# Altium schematic symbol library kmilo17pet-TI_MSP430.SchLib: 1463 symbols (part 93 of 130)
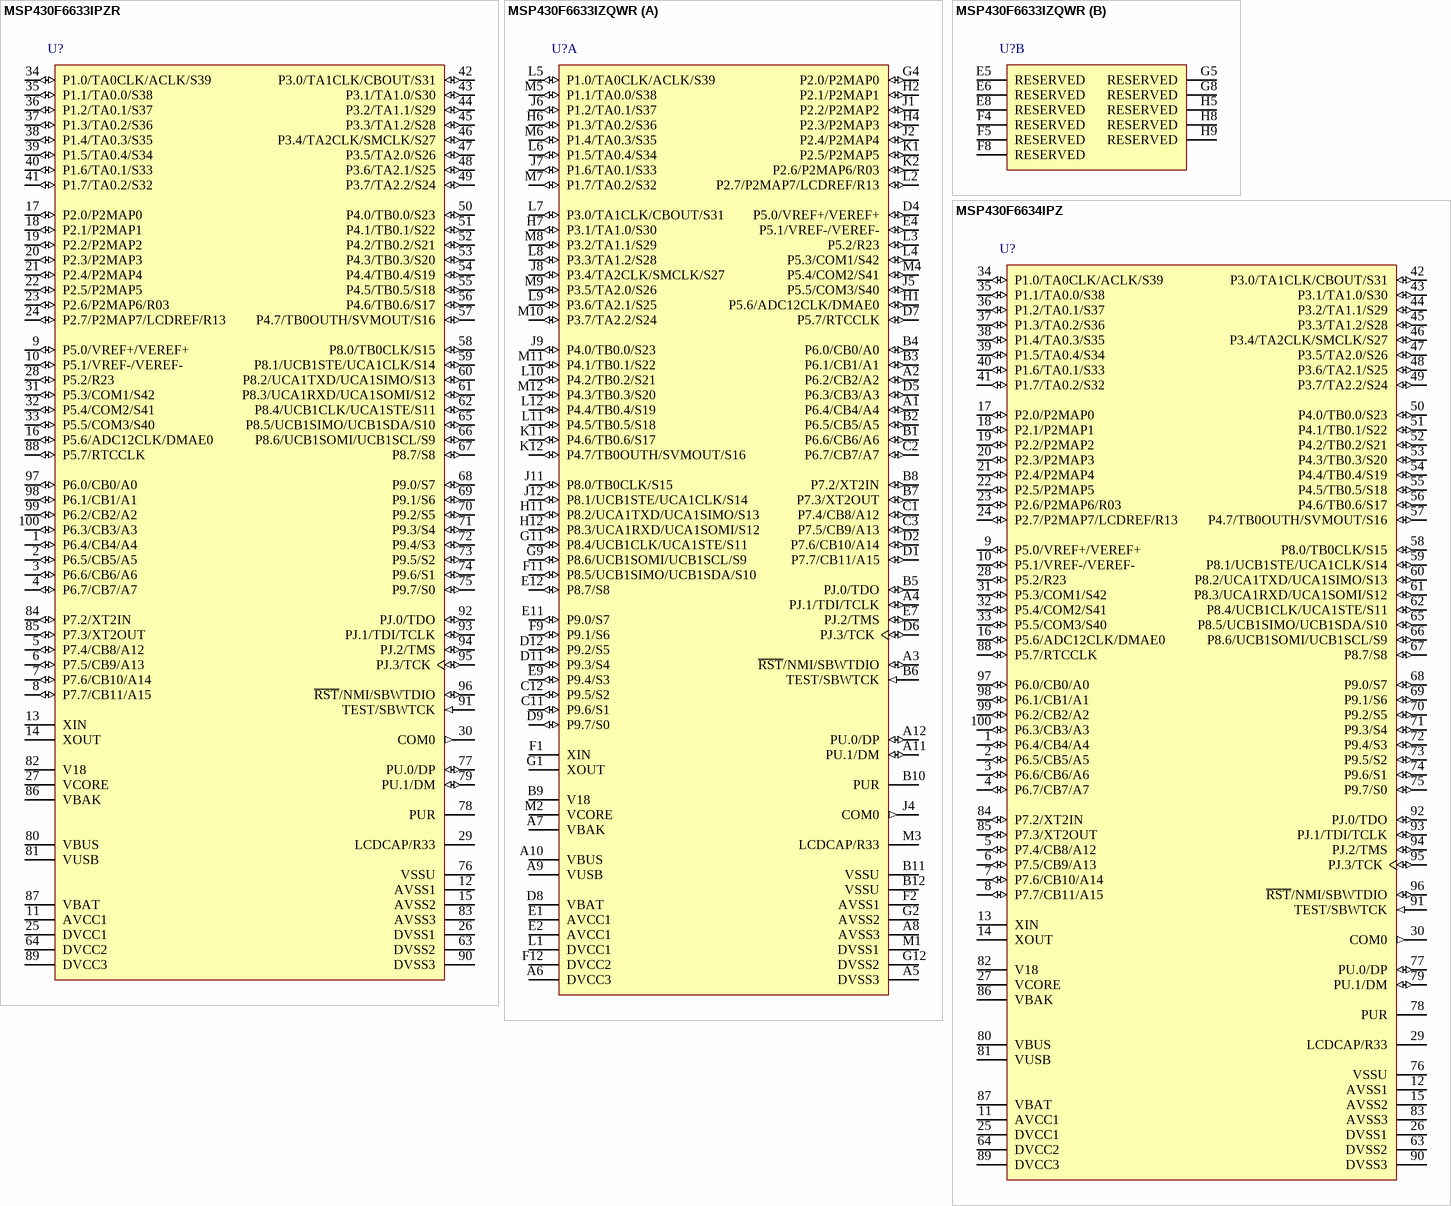
[diagram p282: symbols MSP430F6633IPZR to MSP430F6634IPZ]

## MSP430F6634IPZ
designator U?
20 MHz Mixed Signal Microcontroller with 192 KB Flash, 16384 B SRAM and 74 GPIOs, -40 to 85 degC, 100-pin QFP (PZ), Green (RoHS & no Sb/Br); Manufacturer: Texas Instruments; PartNumber: MSP430F6634IPZ; ADC: 12-bit SAR; ADC Channels: 16; Brown Out Reset: Yes; DMA: 3; Flash(KB): 192; Frequency(MHz): 20; GPIO: 74; Multiplier: 32x32; Real-Time Clock: Yes, with battery backup; SRAM(B): 16384; SubFamily: 6 Series with LCD; Timers - 16-bit: 4; USB: 1; USCI_A (UART/LIN/IrDA/SPI): 2; DatasheetVersion: SLAS566C; PackageVersion: 4040149/B; PackageReference: PZ100; PackageDescription: 100-Pin Plastic Flat Pack, Body 14 x 14 mm, Pitch 0.5 mm; Supplier 1: Digi-Key; Supplier Part Number 1: MSP430F6633IZQWR-ND; Supplier 2: Mouser; Supplier Part Number 2: 595-MSP430F6633IZQWR; Comparators: Yes; Eco-Plan: Green (RoHS & no Sb/Br); SVS: Yes; Temp Sensor: Yes; USCI_B (I2C & SPI): 2; Watchdog: Yes; Mounting Technology: Surface Mount; Code_JEDEC: MS-026; ComponentLink1Description: Manufacturer URL; ComponentLink1URL: http://www.ti.com/; ComponentLink2Description: Datasheet; ComponentLink2URL: http://www.ti.com/general/docs/lit/getliterature.tsp?genericPartNumber=MSP430F6634&fileType=pdf; ComponentLink3Description: Package Specification; ComponentLink3URL: http://www.ti.com/lit/ml/mtqf013a/mtqf013a.pdf
footprint TI-PZ100_N (QFP, 100-Leads, Body 14x14mm, Pitch 0.5mm, IPC Medium Density)
pins: 1 P6.4/CB4/A4 (io), 2 P6.5/CB5/A5 (io), 3 P6.6/CB6/A6 (io), 4 P6.7/CB7/A7 (io), 5 P7.4/CB8/A12 (io), 6 P7.5/CB9/A13 (io), 7 P7.6/CB10/A14 (io), 8 P7.7/CB11/A15 (io), 9 P5.0/VREF+/VEREF+ (io), 10 P5.1/VREF-/VEREF- (io), 11 AVCC1 (power) "Analog power supply", 12 AVSS1 (power) "Analog ground supply", 13 XIN "Input terminal for crystal oscillator XT1", 14 XOUT "Output terminal of crystal oscillator XT1", 15 AVSS2 (power) "Analog ground supply", 16 P5.6/ADC12CLK/DMAE0 (io), 17 P2.0/P2MAP0 (io), 18 P2.1/P2MAP1 (io), 19 P2.2/P2MAP2 (io), 20 P2.3/P2MAP3 (io), 21 P2.4/P2MAP4 (io), 22 P2.5/P2MAP5 (io), 23 P2.6/P2MAP6/R03 (io), 24 P2.7/P2MAP7/LCDREF/R13 (io), 25 DVCC1 (power) "Digital power supply", 26 DVSS1 (power) "Digital ground supply", 27 VCORE "Regulated core power supply (internal use only, no external current loading)", 28 P5.2/R23 (io), 29 LCDCAP/R33, 30 COM0 (out) "LCD common output COM0 for LCD backplane", 31 P5.3/COM1/S42 (io), 32 P5.4/COM2/S41 (io), 33 P5.5/COM3/S40 (io), 34 P1.0/TA0CLK/ACLK/S39 (io), 35 P1.1/TA0.0/S38 (io), 36 P1.2/TA0.1/S37 (io), 37 P1.3/TA0.2/S36 (io), 38 P1.4/TA0.3/S35 (io), 39 P1.5/TA0.4/S34 (io), 40 P1.6/TA0.1/S33 (io), 41 P1.7/TA0.2/S32 (io), 42 P3.0/TA1CLK/CBOUT/S31 (io), 43 P3.1/TA1.0/S30 (io), 44 P3.2/TA1.1/S29 (io), 45 P3.3/TA1.2/S28 (io), 46 P3.4/TA2CLK/SMCLK/S27 (io), 47 P3.5/TA2.0/S26 (io), 48 P3.6/TA2.1/S25 (io), 49 P3.7/TA2.2/S24 (io), 50 P4.0/TB0.0/S23 (io), 51 P4.1/TB0.1/S22 (io), 52 P4.2/TB0.2/S21 (io), 53 P4.3/TB0.3/S20 (io), 54 P4.4/TB0.4/S19 (io), 55 P4.5/TB0.5/S18 (io), 56 P4.6/TB0.6/S17 (io), 57 P4.7/TB0OUTH/SVMOUT/S16 (io), 58 P8.0/TB0CLK/S15 (io), 59 P8.1/UCB1STE/UCA1CLK/S14 (io), 60 P8.2/UCA1TXD/UCA1SIMO/S13 (io), 61 P8.3/UCA1RXD/UCA1SOMI/S12 (io), 62 P8.4/UCB1CLK/UCA1STE/S11 (io), 63 DVSS2 (power) "Digital ground supply", 64 DVCC2 (power) "Digital power supply", 65 P8.5/UCB1SIMO/UCB1SDA/S10 (io), 66 P8.6/UCB1SOMI/UCB1SCL/S9 (io), 67 P8.7/S8 (io), 68 P9.0/S7 (io), 69 P9.1/S6 (io), 70 P9.2/S5 (io), 71 P9.3/S4 (io), 72 P9.4/S3 (io), 73 P9.5/S2 (io), 74 P9.6/S1 (io), 75 P9.7/S0 (io), 76 VSSU (power) "USB PHY ground supply", 77 PU.0/DP (io), 78 PUR "USB pullup resistor pin (open drain). The voltage level at the PUR pin is used to PUR pin is used to invoke the default USB BSL. Recommended 1-Mohm resistor to ground.", 79 PU.1/DM (io), 80 VBUS (power) "USB LDO input (connect to USB power source)", 81 VUSB (power) "USB LDO output", 82 V18 "USB regulated power (internal use only, no external current loading)", 83 AVSS3 (power) "Analog ground supply", 84 P7.2/XT2IN (io), 85 P7.3/XT2OUT (io), 86 VBAK "Capacitor for backup subsystem. Do not load this pin externally. For capacitor values, see CBAK in Recommended Operating Conditions.", 87 VBAT (power) "Backup or secondary supply voltage. If backup voltage is not supplied, connect to DVCC externally.", 88 P5.7/RTCCLK (io), 89 DVCC3 (power) "Digital power supply", 90 DVSS3 (power) "Digital ground supply", 91 TEST/SBWTCK (in), 92 PJ.0/TDO (io), 93 PJ.1/TDI/TCLK (io), 94 PJ.2/TMS (io), 95 PJ.3/TCK (io), 96 ~{RST}/NMI/SBWTDIO (io), 97 P6.0/CB0/A0 (io), 98 P6.1/CB1/A1 (io), 99 P6.2/CB2/A2 (io), 100 P6.3/CB3/A3 (io)

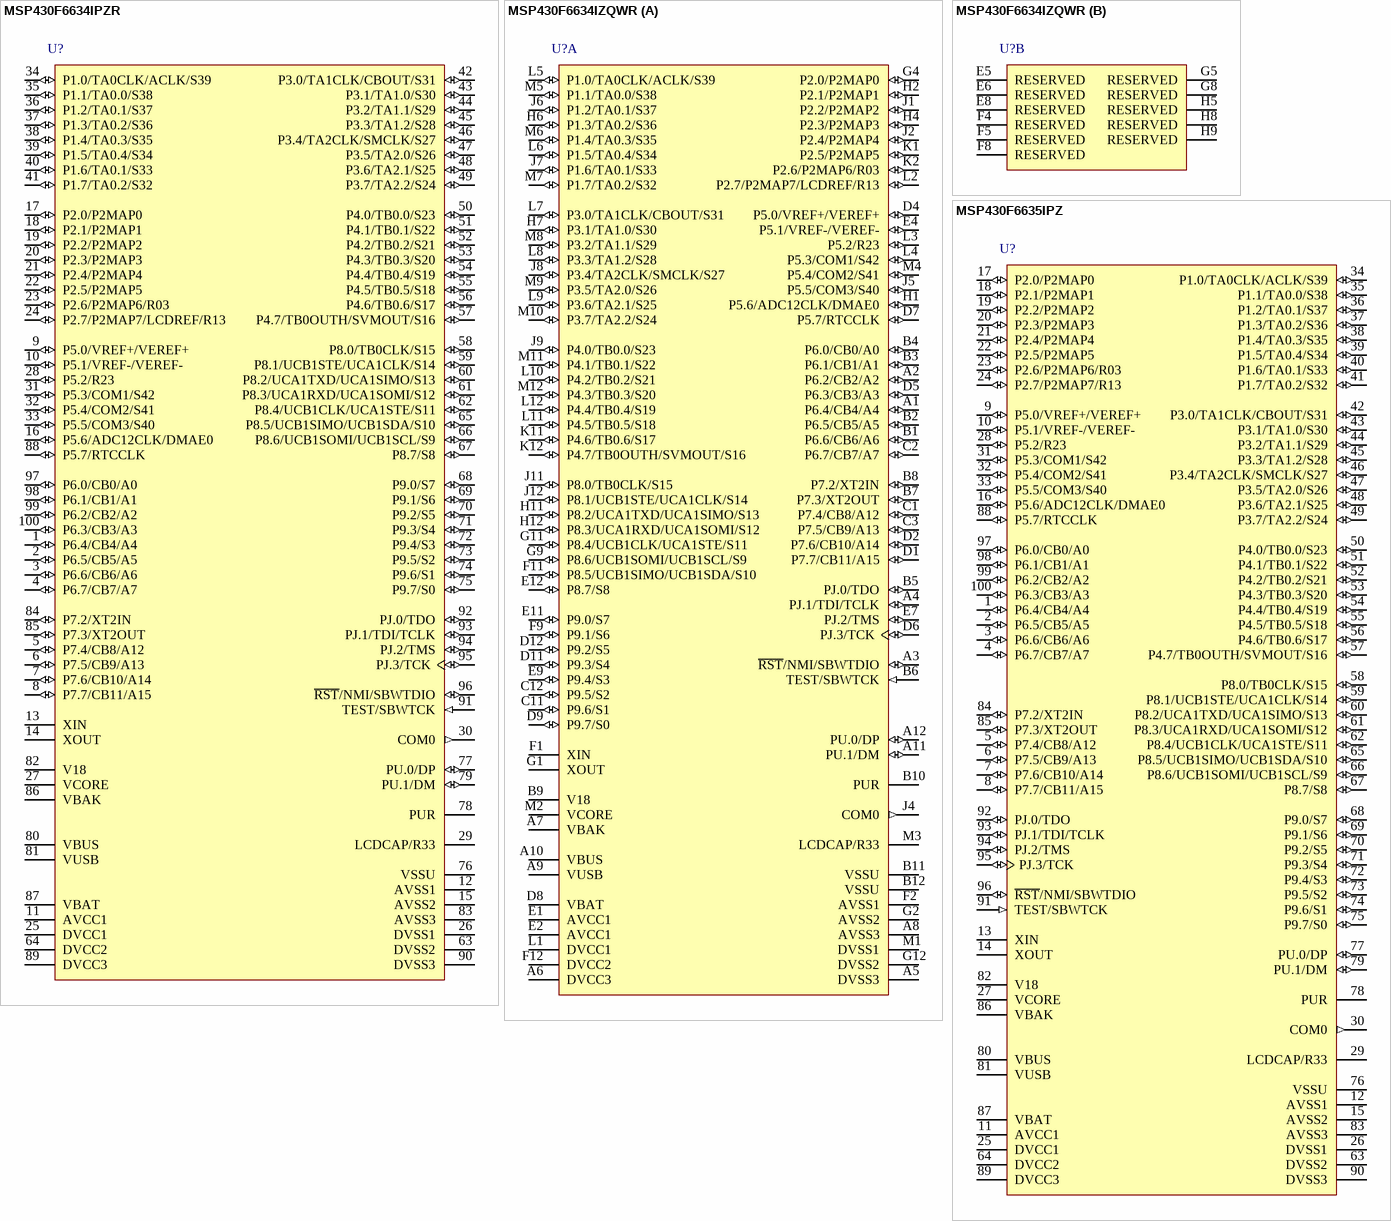
[diagram p150: symbols MSP430F6634IPZR to MSP430F6635IPZ]

## MSP430F6634IPZR
designator U?
20 MHz Mixed Signal Microcontroller with 192 KB Flash, 16384 B SRAM and 74 GPIOs, -40 to 85 degC, 100-pin QFP (PZ), Green (RoHS & no Sb/Br); Manufacturer: Texas Instruments; PartNumber: MSP430F6634IPZR; ADC: 12-bit SAR; ADC Channels: 16; Brown Out Reset: Yes; DMA: 3; Flash(KB): 192; Frequency(MHz): 20; GPIO: 74; Multiplier: 32x32; Real-Time Clock: Yes, with battery backup; SRAM(B): 16384; SubFamily: 6 Series with LCD; Timers - 16-bit: 4; USB: 1; USCI_A (UART/LIN/IrDA/SPI): 2; DatasheetVersion: SLAS566C; PackageVersion: 4040149/B; PackageReference: PZ100; PackageDescription: 100-Pin Plastic Flat Pack, Body 14 x 14 mm, Pitch 0.5 mm; Supplier 1: Digi-Key; Supplier Part Number 1: MSP430F6634IPZ-ND; Supplier 2: Newark; Supplier Part Number 2: 21T2325; Supplier 3: Mouser; Supplier Part Number 3: 595-MSP430F6634IPZ; Comparators: Yes; Eco-Plan: Green (RoHS & no Sb/Br); SVS: Yes; Temp Sensor: Yes; USCI_B (I2C & SPI): 2; Watchdog: Yes; Mounting Technology: Surface Mount; Code_JEDEC: MS-026; ComponentLink1Description: Manufacturer URL; ComponentLink1URL: http://www.ti.com/; ComponentLink2Description: Datasheet; ComponentLink2URL: http://www.ti.com/general/docs/lit/getliterature.tsp?genericPartNumber=MSP430F6634&fileType=pdf; ComponentLink3Description: Package Specification; ComponentLink3URL: http://www.ti.com/lit/ml/mtqf013a/mtqf013a.pdf
footprint TI-PZ100_N (QFP, 100-Leads, Body 14x14mm, Pitch 0.5mm, IPC Medium Density)
pins: 1 P6.4/CB4/A4 (io), 2 P6.5/CB5/A5 (io), 3 P6.6/CB6/A6 (io), 4 P6.7/CB7/A7 (io), 5 P7.4/CB8/A12 (io), 6 P7.5/CB9/A13 (io), 7 P7.6/CB10/A14 (io), 8 P7.7/CB11/A15 (io), 9 P5.0/VREF+/VEREF+ (io), 10 P5.1/VREF-/VEREF- (io), 11 AVCC1 (power) "Analog power supply", 12 AVSS1 (power) "Analog ground supply", 13 XIN "Input terminal for crystal oscillator XT1", 14 XOUT "Output terminal of crystal oscillator XT1", 15 AVSS2 (power) "Analog ground supply", 16 P5.6/ADC12CLK/DMAE0 (io), 17 P2.0/P2MAP0 (io), 18 P2.1/P2MAP1 (io), 19 P2.2/P2MAP2 (io), 20 P2.3/P2MAP3 (io), 21 P2.4/P2MAP4 (io), 22 P2.5/P2MAP5 (io), 23 P2.6/P2MAP6/R03 (io), 24 P2.7/P2MAP7/LCDREF/R13 (io), 25 DVCC1 (power) "Digital power supply", 26 DVSS1 (power) "Digital ground supply", 27 VCORE "Regulated core power supply (internal use only, no external current loading)", 28 P5.2/R23 (io), 29 LCDCAP/R33, 30 COM0 (out) "LCD common output COM0 for LCD backplane", 31 P5.3/COM1/S42 (io), 32 P5.4/COM2/S41 (io), 33 P5.5/COM3/S40 (io), 34 P1.0/TA0CLK/ACLK/S39 (io), 35 P1.1/TA0.0/S38 (io), 36 P1.2/TA0.1/S37 (io), 37 P1.3/TA0.2/S36 (io), 38 P1.4/TA0.3/S35 (io), 39 P1.5/TA0.4/S34 (io), 40 P1.6/TA0.1/S33 (io), 41 P1.7/TA0.2/S32 (io), 42 P3.0/TA1CLK/CBOUT/S31 (io), 43 P3.1/TA1.0/S30 (io), 44 P3.2/TA1.1/S29 (io), 45 P3.3/TA1.2/S28 (io), 46 P3.4/TA2CLK/SMCLK/S27 (io), 47 P3.5/TA2.0/S26 (io), 48 P3.6/TA2.1/S25 (io), 49 P3.7/TA2.2/S24 (io), 50 P4.0/TB0.0/S23 (io), 51 P4.1/TB0.1/S22 (io), 52 P4.2/TB0.2/S21 (io), 53 P4.3/TB0.3/S20 (io), 54 P4.4/TB0.4/S19 (io), 55 P4.5/TB0.5/S18 (io), 56 P4.6/TB0.6/S17 (io), 57 P4.7/TB0OUTH/SVMOUT/S16 (io), 58 P8.0/TB0CLK/S15 (io), 59 P8.1/UCB1STE/UCA1CLK/S14 (io), 60 P8.2/UCA1TXD/UCA1SIMO/S13 (io), 61 P8.3/UCA1RXD/UCA1SOMI/S12 (io), 62 P8.4/UCB1CLK/UCA1STE/S11 (io), 63 DVSS2 (power) "Digital ground supply", 64 DVCC2 (power) "Digital power supply", 65 P8.5/UCB1SIMO/UCB1SDA/S10 (io), 66 P8.6/UCB1SOMI/UCB1SCL/S9 (io), 67 P8.7/S8 (io), 68 P9.0/S7 (io), 69 P9.1/S6 (io), 70 P9.2/S5 (io), 71 P9.3/S4 (io), 72 P9.4/S3 (io), 73 P9.5/S2 (io), 74 P9.6/S1 (io), 75 P9.7/S0 (io), 76 VSSU (power) "USB PHY ground supply", 77 PU.0/DP (io), 78 PUR "USB pullup resistor pin (open drain). The voltage level at the PUR pin is used to PUR pin is used to invoke the default USB BSL. Recommended 1-Mohm resistor to ground.", 79 PU.1/DM (io), 80 VBUS (power) "USB LDO input (connect to USB power source)", 81 VUSB (power) "USB LDO output", 82 V18 "USB regulated power (internal use only, no external current loading)", 83 AVSS3 (power) "Analog ground supply", 84 P7.2/XT2IN (io), 85 P7.3/XT2OUT (io), 86 VBAK "Capacitor for backup subsystem. Do not load this pin externally. For capacitor values, see CBAK in Recommended Operating Conditions.", 87 VBAT (power) "Backup or secondary supply voltage. If backup voltage is not supplied, connect to DVCC externally.", 88 P5.7/RTCCLK (io), 89 DVCC3 (power) "Digital power supply", 90 DVSS3 (power) "Digital ground supply", 91 TEST/SBWTCK (in), 92 PJ.0/TDO (io), 93 PJ.1/TDI/TCLK (io), 94 PJ.2/TMS (io), 95 PJ.3/TCK (io), 96 ~{RST}/NMI/SBWTDIO (io), 97 P6.0/CB0/A0 (io), 98 P6.1/CB1/A1 (io), 99 P6.2/CB2/A2 (io), 100 P6.3/CB3/A3 (io)

## MSP430F6634IZQWR
designator U?
20 MHz Mixed Signal Microcontroller with 192 KB Flash, 16384 B SRAM and 74 GPIOs, -40 to 85 degC, 113-pin BGA (ZQW), Green (RoHS & no Sb/Br); Manufacturer: Texas Instruments; PartNumber: MSP430F6634IZQWR; ADC: 12-bit SAR; ADC Channels: 16; Brown Out Reset: Yes; DMA: 3; Flash(KB): 192; Frequency(MHz): 20; GPIO: 74; Multiplier: 32x32; Real-Time Clock: Yes, with battery backup; SRAM(B): 16384; SubFamily: 6 Series with LCD; Timers - 16-bit: 4; USB: 1; USCI_A (UART/LIN/IrDA/SPI): 2; DatasheetVersion: SLAS566C; PackageVersion: 4204599-3/D; PackageReference: ZQW113; PackageDescription: 113-Pin Plastic Ball Grid Array Package, Body 7 x 7 mm, Pitch 0.5 mm; Supplier 1: Digi-Key; Supplier Part Number 1: MSP430F6634IPZR-ND; Supplier 2: Mouser; Supplier Part Number 2: 595-MSP430F6634IPZR; Comparators: Yes; Eco-Plan: Green (RoHS & no Sb/Br); SVS: Yes; Temp Sensor: Yes; USCI_B (I2C & SPI): 2; Watchdog: Yes; Mounting Technology: Surface Mount; Code_JEDEC: MO-225; ComponentLink1Description: Manufacturer URL; ComponentLink1URL: http://www.ti.com/; ComponentLink2Description: Datasheet; ComponentLink2URL: http://www.ti.com/general/docs/lit/getliterature.tsp?genericPartNumber=MSP430F6634&fileType=pdf; ComponentLink3Description: Package Specification; ComponentLink3URL: http://www.ti.com/lit/ml/mpbg674/mpbg674.pdf
footprint TI-ZQW113 (BGA, 113-Balls, Body 7x7mm, Pitch 0.5mm)
part A pins: A1 P6.4/CB4/A4 (io), A2 P6.2/CB2/A2 (io), A3 ~{RST}/NMI/SBWTDIO (io), A4 PJ.1/TDI/TCLK (io), A5 DVSS3 (power) "Digital ground supply", A6 DVCC3 (power) "Digital power supply", A7 VBAK "Capacitor for backup subsystem. Do not load this pin externally. For capacitor values, see CBAK in Recommended Operating Conditions.", A8 AVSS3 (power) "Analog ground supply", A9 VUSB (power) "USB LDO output", A10 VBUS (power) "USB LDO input (connect to USB power source)", A11 PU.1/DM (io), A12 PU.0/DP (io), B1 P6.6/CB6/A6 (io), B2 P6.5/CB5/A5 (io), B3 P6.1/CB1/A1 (io), B4 P6.0/CB0/A0 (io), B5 PJ.0/TDO (io), B6 TEST/SBWTCK (in), B7 P7.3/XT2OUT (io), B8 P7.2/XT2IN (io), B9 V18 "USB regulated power (internal use only, no external current loading)", B10 PUR "USB pullup resistor pin (open drain). The voltage level at the PUR pin is used to the default USB BSL. Recommended 1-Mohm resistor to ground.", B11 VSSU (power) "USB PHY ground supply", B12 VSSU (power) "USB PHY ground supply", C1 P7.4/CB8/A12 (io), C2 P6.7/CB7/A7 (io), C3 P7.5/CB9/A13 (io), C11 P9.6/S1 (io), C12 P9.5/S2 (io), D1 P7.7/CB11/A15 (io), D2 P7.6/CB10/A14 (io), D4 P5.0/VREF+/VEREF+ (io), D5 P6.3/CB3/A3 (io), D6 PJ.3/TCK (io), D7 P5.7/RTCCLK (io), D8 VBAT (power) "Backup or secondary supply voltage. If backup voltage is not supplied, connect to DVCC externally.", D9 P9.7/S0 (io), D11 P9.3/S4 (io), D12 P9.2/S5 (io), E1 AVCC1 (power) "Analog power supply", E2 AVCC1 (power) "Analog power supply", E4 P5.1/VREF-/VEREF- (io), E7 PJ.2/TMS (io), E9 P9.4/S3 (io), E11 P9.0/S7 (io), E12 P8.7/S8 (io), F1 XIN "Input terminal for crystal oscillator XT1", F2 AVSS1 (power) "Analog ground supply", F9 P9.1/S6 (io), F11 P8.5/UCB1SIMO/UCB1SDA/S10 (io), F12 DVCC2 (power) "Digital power supply", G1 XOUT "Output terminal of crystal oscillator XT1", G2 AVSS2 (power) "Analog ground supply", G4 P2.0/P2MAP0 (io), G9 P8.6/UCB1SOMI/UCB1SCL/S9 (io), G11 P8.4/UCB1CLK/UCA1STE/S11 (io), G12 DVSS2 (power) "Digital ground supply", H1 P5.6/ADC12CLK/DMAE0 (io), H2 P2.1/P2MAP1 (io), H4 P2.3/P2MAP3 (io), H6 P1.3/TA0.2/S36 (io), H7 P3.1/TA1.0/S30 (io), H11 P8.2/UCA1TXD/UCA1SIMO/S13 (io), H12 P8.3/UCA1RXD/UCA1SOMI/S12 (io), J1 P2.2/P2MAP2 (io), J2 P2.4/P2MAP4 (io), J4 COM0 (out) "LCD common output COM0 for LCD backplane", J5 P5.5/COM3/S40 (io), J6 P1.2/TA0.1/S37 (io), J7 P1.6/TA0.1/S33 (io), J8 P3.4/TA2CLK/SMCLK/S27 (io), J9 P4.0/TB0.0/S23 (io), J11 P8.0/TB0CLK/S15 (io), J12 P8.1/UCB1STE/UCA1CLK/S14 (io), K1 P2.5/P2MAP5 (io), K2 P2.6/P2MAP6/R03 (io), K11 P4.6/TB0.6/S17 (io), K12 P4.7/TB0OUTH/SVMOUT/S16 (io), L1 DVCC1 (power) "Digital power supply", L2 P2.7/P2MAP7/LCDREF/R13 (io), L3 P5.2/R23 (io), L4 P5.3/COM1/S42 (io), L5 P1.0/TA0CLK/ACLK/S39 (io), L6 P1.5/TA0.4/S34 (io), L7 P3.0/TA1CLK/CBOUT/S31 (io), L8 P3.3/TA1.2/S28 (io), L9 P3.6/TA2.1/S25 (io), L10 P4.2/TB0.2/S21 (io), L11 P4.5/TB0.5/S18 (io), L12 P4.4/TB0.4/S19 (io), M1 DVSS1 (power) "Digital ground supply", M2 VCORE "Regulated core power supply (internal use only, no external current loading)", M3 LCDCAP/R33, M4 P5.4/COM2/S41 (io), M5 P1.1/TA0.0/S38 (io), M6 P1.4/TA0.3/S35 (io), M7 P1.7/TA0.2/S32 (io), M8 P3.2/TA1.1/S29 (io), M9 P3.5/TA2.0/S26 (io), M10 P3.7/TA2.2/S24 (io), M11 P4.1/TB0.1/S22 (io), M12 P4.3/TB0.3/S20 (io)
part B pins: E5 RESERVED "Reserved. It is recommended to connect to ground (DVSS, AVSS).", E6 RESERVED "Reserved. It is recommended to connect to ground (DVSS, AVSS).", E8 RESERVED "Reserved. It is recommended to connect to ground (DVSS, AVSS).", F4 RESERVED "Reserved. It is recommended to connect to ground (DVSS, AVSS).", F5 RESERVED "Reserved. It is recommended to connect to ground (DVSS, AVSS).", F8 RESERVED "Reserved. It is recommended to connect to ground (DVSS, AVSS).", G5 RESERVED "Reserved. It is recommended to connect to ground (DVSS, AVSS).", G8 RESERVED "Reserved. It is recommended to connect to ground (DVSS, AVSS).", H5 RESERVED "Reserved. It is recommended to connect to ground (DVSS, AVSS).", H8 RESERVED "Reserved. It is recommended to connect to ground (DVSS, AVSS).", H9 RESERVED "Reserved. It is recommended to connect to ground (DVSS, AVSS)."

## MSP430F6635IPZ
designator U?
20 MHz Mixed Signal Microcontroller with 256 KB Flash, 16384 B SRAM and 74 GPIOs, -40 to 85 degC, 100-pin QFP (PZ), Green (RoHS & no Sb/Br); Manufacturer: Texas Instruments; PartNumber: MSP430F6635IPZ; ADC: 12-bit SAR; ADC Channels: 16; Brown Out Reset: Yes; DMA: 3; Flash(KB): 256; Frequency(MHz): 20; GPIO: 74; Multiplier: 32x32; Real-Time Clock: Yes, with battery backup; SRAM(B): 16384; SubFamily: 6 Series with LCD; Timers - 16-bit: 4; USB: 1; USCI_A (UART/LIN/IrDA/SPI): 2; DatasheetVersion: SLAS566C; PackageVersion: 4040149/B; PackageReference: PZ100; PackageDescription: 100-Pin Plastic Flat Pack, Body 14 x 14 mm, Pitch 0.5 mm; Supplier 1: Digi-Key; Supplier Part Number 1: MSP430F6634IZQWR-ND; Supplier 2: Mouser; Supplier Part Number 2: 595-MSP430F6634IZQWR; Comparators: Yes; Eco-Plan: Green (RoHS & no Sb/Br); SVS: Yes; Temp Sensor: Yes; USCI_B (I2C & SPI): 2; Watchdog: Yes; Mounting Technology: Surface Mount; Code_JEDEC: MS-026; ComponentLink1Description: Manufacturer URL; ComponentLink1URL: http://www.ti.com/; ComponentLink2Description: Datasheet; ComponentLink2URL: http://www.ti.com/general/docs/lit/getliterature.tsp?genericPartNumber=MSP430F6635&fileType=pdf; ComponentLink3Description: Package Specification; ComponentLink3URL: http://www.ti.com/lit/ml/mtqf013a/mtqf013a.pdf
footprint TI-PZ100_N (QFP, 100-Leads, Body 14x14mm, Pitch 0.5mm, IPC Medium Density)
pins: 1 P6.4/CB4/A4 (io), 2 P6.5/CB5/A5 (io), 3 P6.6/CB6/A6 (io), 4 P6.7/CB7/A7 (io), 5 P7.4/CB8/A12 (io), 6 P7.5/CB9/A13 (io), 7 P7.6/CB10/A14 (io), 8 P7.7/CB11/A15 (io), 9 P5.0/VREF+/VEREF+ (io), 10 P5.1/VREF-/VEREF- (io), 11 AVCC1 (power) "Analog power supply", 12 AVSS1 (power) "Analog ground supply", 13 XIN "Input terminal for crystal oscillator XT1", 14 XOUT "Output terminal of crystal oscillator XT1", 15 AVSS2 (power) "Analog ground supply", 16 P5.6/ADC12CLK/DMAE0 (io), 17 P2.0/P2MAP0 (io), 18 P2.1/P2MAP1 (io), 19 P2.2/P2MAP2 (io), 20 P2.3/P2MAP3 (io), 21 P2.4/P2MAP4 (io), 22 P2.5/P2MAP5 (io), 23 P2.6/P2MAP6/R03 (io), 24 P2.7/P2MAP7/R13 (io), 25 DVCC1 (power) "Digital power supply", 26 DVSS1 (power) "Digital ground supply", 27 VCORE "Regulated core power supply (internal use only, no external current loading)", 28 P5.2/R23 (io), 29 LCDCAP/R33, 30 COM0 (out) "LCD common output COM0 for LCD backplane", 31 P5.3/COM1/S42 (io), 32 P5.4/COM2/S41 (io), 33 P5.5/COM3/S40 (io), 34 P1.0/TA0CLK/ACLK/S39 (io), 35 P1.1/TA0.0/S38 (io), 36 P1.2/TA0.1/S37 (io), 37 P1.3/TA0.2/S36 (io), 38 P1.4/TA0.3/S35 (io), 39 P1.5/TA0.4/S34 (io), 40 P1.6/TA0.1/S33 (io), 41 P1.7/TA0.2/S32 (io), 42 P3.0/TA1CLK/CBOUT/S31 (io), 43 P3.1/TA1.0/S30 (io), 44 P3.2/TA1.1/S29 (io), 45 P3.3/TA1.2/S28 (io), 46 P3.4/TA2CLK/SMCLK/S27 (io), 47 P3.5/TA2.0/S26 (io), 48 P3.6/TA2.1/S25 (io), 49 P3.7/TA2.2/S24 (io), 50 P4.0/TB0.0/S23 (io), 51 P4.1/TB0.1/S22 (io), 52 P4.2/TB0.2/S21 (io), 53 P4.3/TB0.3/S20 (io), 54 P4.4/TB0.4/S19 (io), 55 P4.5/TB0.5/S18 (io), 56 P4.6/TB0.6/S17 (io), 57 P4.7/TB0OUTH/SVMOUT/S16 (io), 58 P8.0/TB0CLK/S15 (io), 59 P8.1/UCB1STE/UCA1CLK/S14 (io), 60 P8.2/UCA1TXD/UCA1SIMO/S13 (io), 61 P8.3/UCA1RXD/UCA1SOMI/S12 (io), 62 P8.4/UCB1CLK/UCA1STE/S11 (io), 63 DVSS2 (power) "Digital ground supply", 64 DVCC2 (power) "Digital power supply", 65 P8.5/UCB1SIMO/UCB1SDA/S10 (io), 66 P8.6/UCB1SOMI/UCB1SCL/S9 (io), 67 P8.7/S8 (io), 68 P9.0/S7 (io), 69 P9.1/S6 (io), 70 P9.2/S5 (io), 71 P9.3/S4 (io), 72 P9.4/S3 (io), 73 P9.5/S2 (io), 74 P9.6/S1 (io), 75 P9.7/S0 (io), 76 VSSU (power) "USB PHY ground supply", 77 PU.0/DP (io), 78 PUR "USB pullup resistor pin (open drain). The voltage level at the PUR pin is used to PUR pin is used to invoke the default USB BSL. Recommended 1-Mohm resistor to ground.", 79 PU.1/DM (io), 80 VBUS (power) "USB LDO input (connect to USB power source)", 81 VUSB (power) "USB LDO output", 82 V18 "USB regulated power (internal use only, no external current loading)", 83 AVSS3 (power) "Analog ground supply", 84 P7.2/XT2IN (io), 85 P7.3/XT2OUT (io), 86 VBAK "Capacitor for backup subsystem. Do not load this pin externally. For capacitor values, see CBAK in Recommended Operating Conditions.", 87 VBAT (power) "Backup or secondary supply voltage. If backup voltage is not supplied, connect to DVCC externally.", 88 P5.7/RTCCLK (io), 89 DVCC3 (power) "Digital power supply", 90 DVSS3 (power) "Digital ground supply", 91 TEST/SBWTCK (in), 92 PJ.0/TDO (io), 93 PJ.1/TDI/TCLK (io), 94 PJ.2/TMS (io), 95 PJ.3/TCK (io), 96 ~{RST}/NMI/SBWTDIO (io), 97 P6.0/CB0/A0 (io), 98 P6.1/CB1/A1 (io), 99 P6.2/CB2/A2 (io), 100 P6.3/CB3/A3 (io)

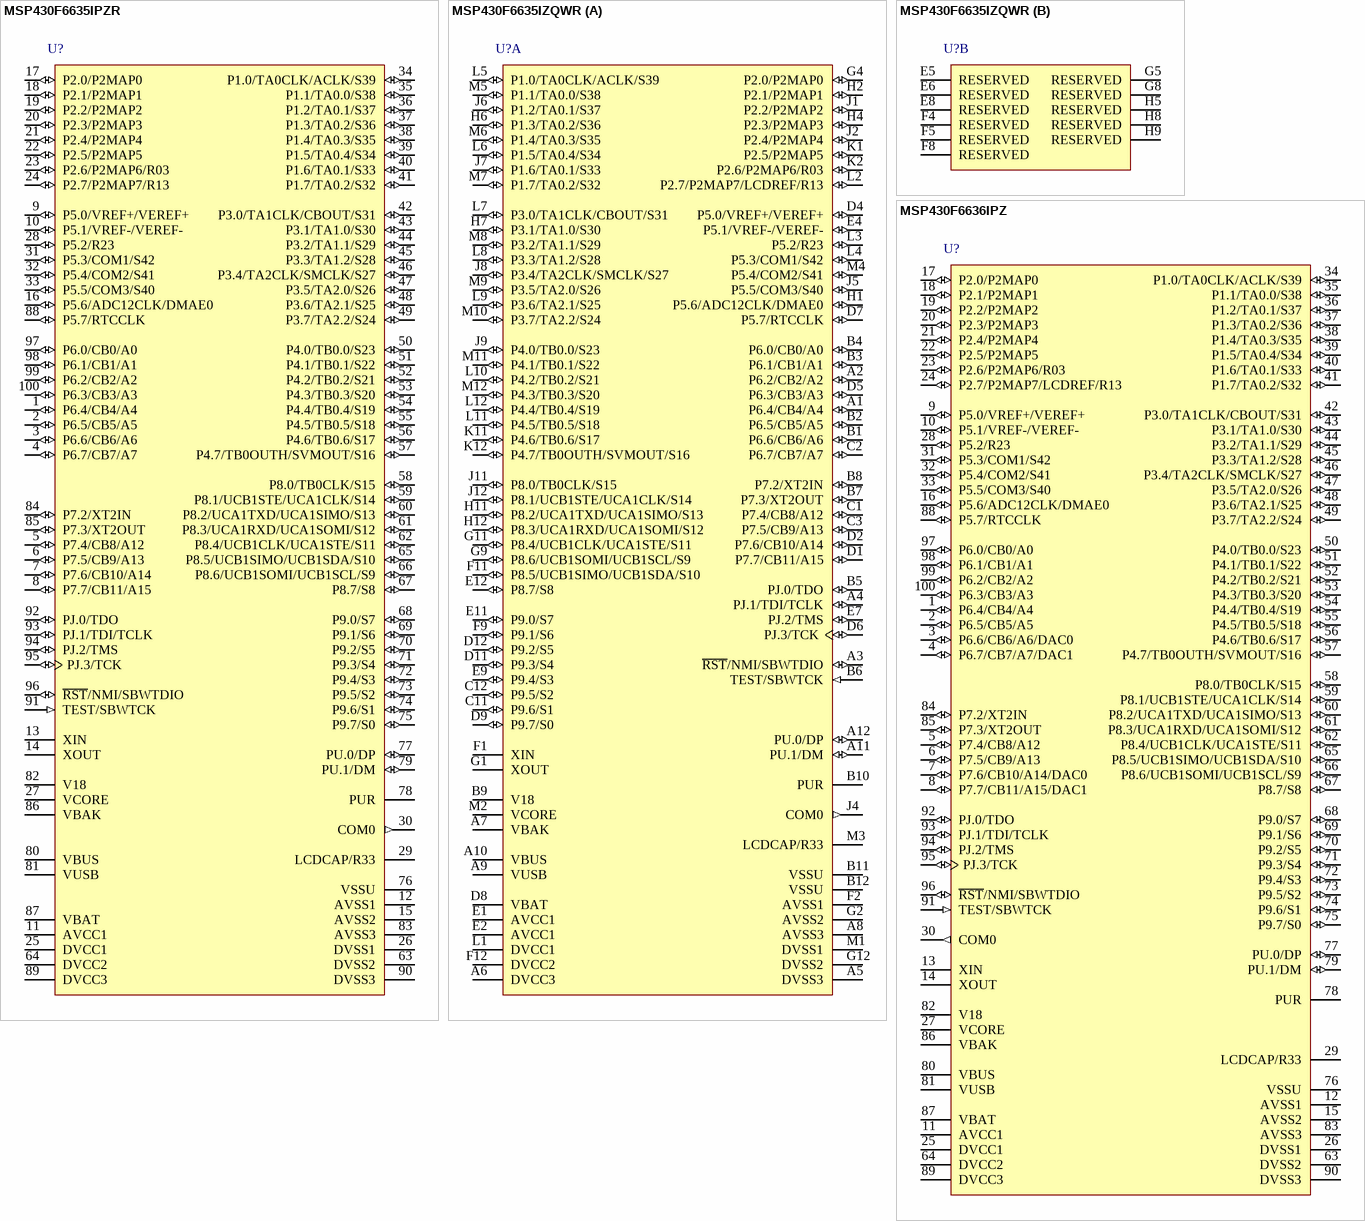
[diagram p151: symbols MSP430F6635IPZR to MSP430F6636IPZ]

## MSP430F6635IPZR
designator U?
20 MHz Mixed Signal Microcontroller with 256 KB Flash, 16384 B SRAM and 74 GPIOs, -40 to 85 degC, 100-pin QFP (PZ), Green (RoHS & no Sb/Br); Manufacturer: Texas Instruments; PartNumber: MSP430F6635IPZR; ADC: 12-bit SAR; ADC Channels: 16; Brown Out Reset: Yes; DMA: 3; Flash(KB): 256; Frequency(MHz): 20; GPIO: 74; Multiplier: 32x32; Real-Time Clock: Yes, with battery backup; SRAM(B): 16384; SubFamily: 6 Series with LCD; Timers - 16-bit: 4; USB: 1; USCI_A (UART/LIN/IrDA/SPI): 2; DatasheetVersion: SLAS566C; PackageVersion: 4040149/B; PackageReference: PZ100; PackageDescription: 100-Pin Plastic Flat Pack, Body 14 x 14 mm, Pitch 0.5 mm; Supplier 1: Digi-Key; Supplier Part Number 1: 296-29522-ND; Supplier 2: Farnell; Supplier Part Number 2: 2057054; Supplier 3: Newark; Supplier Part Number 3: 61T5946; Supplier 4: Mouser; Supplier Part Number 4: 595-MSP430F6635IPZ; Comparators: Yes; Eco-Plan: Green (RoHS & no Sb/Br); SVS: Yes; Temp Sensor: Yes; USCI_B (I2C & SPI): 2; Watchdog: Yes; Mounting Technology: Surface Mount; Code_JEDEC: MS-026; ComponentLink1Description: Manufacturer URL; ComponentLink1URL: http://www.ti.com/; ComponentLink2Description: Datasheet; ComponentLink2URL: http://www.ti.com/general/docs/lit/getliterature.tsp?genericPartNumber=MSP430F6635&fileType=pdf; ComponentLink3Description: Package Specification; ComponentLink3URL: http://www.ti.com/lit/ml/mtqf013a/mtqf013a.pdf
footprint TI-PZ100_N (QFP, 100-Leads, Body 14x14mm, Pitch 0.5mm, IPC Medium Density)
pins: 1 P6.4/CB4/A4 (io), 2 P6.5/CB5/A5 (io), 3 P6.6/CB6/A6 (io), 4 P6.7/CB7/A7 (io), 5 P7.4/CB8/A12 (io), 6 P7.5/CB9/A13 (io), 7 P7.6/CB10/A14 (io), 8 P7.7/CB11/A15 (io), 9 P5.0/VREF+/VEREF+ (io), 10 P5.1/VREF-/VEREF- (io), 11 AVCC1 (power) "Analog power supply", 12 AVSS1 (power) "Analog ground supply", 13 XIN "Input terminal for crystal oscillator XT1", 14 XOUT "Output terminal of crystal oscillator XT1", 15 AVSS2 (power) "Analog ground supply", 16 P5.6/ADC12CLK/DMAE0 (io), 17 P2.0/P2MAP0 (io), 18 P2.1/P2MAP1 (io), 19 P2.2/P2MAP2 (io), 20 P2.3/P2MAP3 (io), 21 P2.4/P2MAP4 (io), 22 P2.5/P2MAP5 (io), 23 P2.6/P2MAP6/R03 (io), 24 P2.7/P2MAP7/R13 (io), 25 DVCC1 (power) "Digital power supply", 26 DVSS1 (power) "Digital ground supply", 27 VCORE "Regulated core power supply (internal use only, no external current loading)", 28 P5.2/R23 (io), 29 LCDCAP/R33, 30 COM0 (out) "LCD common output COM0 for LCD backplane", 31 P5.3/COM1/S42 (io), 32 P5.4/COM2/S41 (io), 33 P5.5/COM3/S40 (io), 34 P1.0/TA0CLK/ACLK/S39 (io), 35 P1.1/TA0.0/S38 (io), 36 P1.2/TA0.1/S37 (io), 37 P1.3/TA0.2/S36 (io), 38 P1.4/TA0.3/S35 (io), 39 P1.5/TA0.4/S34 (io), 40 P1.6/TA0.1/S33 (io), 41 P1.7/TA0.2/S32 (io), 42 P3.0/TA1CLK/CBOUT/S31 (io), 43 P3.1/TA1.0/S30 (io), 44 P3.2/TA1.1/S29 (io), 45 P3.3/TA1.2/S28 (io), 46 P3.4/TA2CLK/SMCLK/S27 (io), 47 P3.5/TA2.0/S26 (io), 48 P3.6/TA2.1/S25 (io), 49 P3.7/TA2.2/S24 (io), 50 P4.0/TB0.0/S23 (io), 51 P4.1/TB0.1/S22 (io), 52 P4.2/TB0.2/S21 (io), 53 P4.3/TB0.3/S20 (io), 54 P4.4/TB0.4/S19 (io), 55 P4.5/TB0.5/S18 (io), 56 P4.6/TB0.6/S17 (io), 57 P4.7/TB0OUTH/SVMOUT/S16 (io), 58 P8.0/TB0CLK/S15 (io), 59 P8.1/UCB1STE/UCA1CLK/S14 (io), 60 P8.2/UCA1TXD/UCA1SIMO/S13 (io), 61 P8.3/UCA1RXD/UCA1SOMI/S12 (io), 62 P8.4/UCB1CLK/UCA1STE/S11 (io), 63 DVSS2 (power) "Digital ground supply", 64 DVCC2 (power) "Digital power supply", 65 P8.5/UCB1SIMO/UCB1SDA/S10 (io), 66 P8.6/UCB1SOMI/UCB1SCL/S9 (io), 67 P8.7/S8 (io), 68 P9.0/S7 (io), 69 P9.1/S6 (io), 70 P9.2/S5 (io), 71 P9.3/S4 (io), 72 P9.4/S3 (io), 73 P9.5/S2 (io), 74 P9.6/S1 (io), 75 P9.7/S0 (io), 76 VSSU (power) "USB PHY ground supply", 77 PU.0/DP (io), 78 PUR "USB pullup resistor pin (open drain). The voltage level at the PUR pin is used to PUR pin is used to invoke the default USB BSL. Recommended 1-Mohm resistor to ground.", 79 PU.1/DM (io), 80 VBUS (power) "USB LDO input (connect to USB power source)", 81 VUSB (power) "USB LDO output", 82 V18 "USB regulated power (internal use only, no external current loading)", 83 AVSS3 (power) "Analog ground supply", 84 P7.2/XT2IN (io), 85 P7.3/XT2OUT (io), 86 VBAK "Capacitor for backup subsystem. Do not load this pin externally. For capacitor values, see CBAK in Recommended Operating Conditions.", 87 VBAT (power) "Backup or secondary supply voltage. If backup voltage is not supplied, connect to DVCC externally.", 88 P5.7/RTCCLK (io), 89 DVCC3 (power) "Digital power supply", 90 DVSS3 (power) "Digital ground supply", 91 TEST/SBWTCK (in), 92 PJ.0/TDO (io), 93 PJ.1/TDI/TCLK (io), 94 PJ.2/TMS (io), 95 PJ.3/TCK (io), 96 ~{RST}/NMI/SBWTDIO (io), 97 P6.0/CB0/A0 (io), 98 P6.1/CB1/A1 (io), 99 P6.2/CB2/A2 (io), 100 P6.3/CB3/A3 (io)

## MSP430F6635IZQWR
designator U?
20 MHz Mixed Signal Microcontroller with 256 KB Flash, 16384 B SRAM and 74 GPIOs, -40 to 85 degC, 113-pin BGA (ZQW), Green (RoHS & no Sb/Br); Manufacturer: Texas Instruments; PartNumber: MSP430F6635IZQWR; ADC: 12-bit SAR; ADC Channels: 16; Brown Out Reset: Yes; DMA: 3; Flash(KB): 256; Frequency(MHz): 20; GPIO: 74; Multiplier: 32x32; Real-Time Clock: Yes, with battery backup; SRAM(B): 16384; SubFamily: 6 Series with LCD; Timers - 16-bit: 4; USB: 1; USCI_A (UART/LIN/IrDA/SPI): 2; DatasheetVersion: SLAS566C; PackageVersion: 4204599-3/D; PackageReference: ZQW113; PackageDescription: 113-Pin Plastic Ball Grid Array Package, Body 7 x 7 mm, Pitch 0.5 mm; Supplier 1: Digi-Key; Supplier Part Number 1: MSP430F6635IPZR-ND; Supplier 2: Mouser; Supplier Part Number 2: 595-MSP430F6635IPZR; Comparators: Yes; Eco-Plan: Green (RoHS & no Sb/Br); SVS: Yes; Temp Sensor: Yes; USCI_B (I2C & SPI): 2; Watchdog: Yes; Mounting Technology: Surface Mount; Code_JEDEC: MO-225; ComponentLink1Description: Manufacturer URL; ComponentLink1URL: http://www.ti.com/; ComponentLink2Description: Datasheet; ComponentLink2URL: http://www.ti.com/general/docs/lit/getliterature.tsp?genericPartNumber=MSP430F6635&fileType=pdf; ComponentLink3Description: Package Specification; ComponentLink3URL: http://www.ti.com/lit/ml/mpbg674/mpbg674.pdf
footprint TI-ZQW113 (BGA, 113-Balls, Body 7x7mm, Pitch 0.5mm)
part A pins: A1 P6.4/CB4/A4 (io), A2 P6.2/CB2/A2 (io), A3 ~{RST}/NMI/SBWTDIO (io), A4 PJ.1/TDI/TCLK (io), A5 DVSS3 (power) "Digital ground supply", A6 DVCC3 (power) "Digital power supply", A7 VBAK "Capacitor for backup subsystem. Do not load this pin externally. For capacitor values, see CBAK in Recommended Operating Conditions.", A8 AVSS3 (power) "Analog ground supply", A9 VUSB (power) "USB LDO output", A10 VBUS (power) "USB LDO input (connect to USB power source)", A11 PU.1/DM (io), A12 PU.0/DP (io), B1 P6.6/CB6/A6 (io), B2 P6.5/CB5/A5 (io), B3 P6.1/CB1/A1 (io), B4 P6.0/CB0/A0 (io), B5 PJ.0/TDO (io), B6 TEST/SBWTCK (in), B7 P7.3/XT2OUT (io), B8 P7.2/XT2IN (io), B9 V18 "USB regulated power (internal use only, no external current loading)", B10 PUR "USB pullup resistor pin (open drain). The voltage level at the PUR pin is used to the default USB BSL. Recommended 1-Mohm resistor to ground.", B11 VSSU (power) "USB PHY ground supply", B12 VSSU (power) "USB PHY ground supply", C1 P7.4/CB8/A12 (io), C2 P6.7/CB7/A7 (io), C3 P7.5/CB9/A13 (io), C11 P9.6/S1 (io), C12 P9.5/S2 (io), D1 P7.7/CB11/A15 (io), D2 P7.6/CB10/A14 (io), D4 P5.0/VREF+/VEREF+ (io), D5 P6.3/CB3/A3 (io), D6 PJ.3/TCK (io), D7 P5.7/RTCCLK (io), D8 VBAT (power) "Backup or secondary supply voltage. If backup voltage is not supplied, connect to DVCC externally.", D9 P9.7/S0 (io), D11 P9.3/S4 (io), D12 P9.2/S5 (io), E1 AVCC1 (power) "Analog power supply", E2 AVCC1 (power) "Analog power supply", E4 P5.1/VREF-/VEREF- (io), E7 PJ.2/TMS (io), E9 P9.4/S3 (io), E11 P9.0/S7 (io), E12 P8.7/S8 (io), F1 XIN "Input terminal for crystal oscillator XT1", F2 AVSS1 (power) "Analog ground supply", F9 P9.1/S6 (io), F11 P8.5/UCB1SIMO/UCB1SDA/S10 (io), F12 DVCC2 (power) "Digital power supply", G1 XOUT "Output terminal of crystal oscillator XT1", G2 AVSS2 (power) "Analog ground supply", G4 P2.0/P2MAP0 (io), G9 P8.6/UCB1SOMI/UCB1SCL/S9 (io), G11 P8.4/UCB1CLK/UCA1STE/S11 (io), G12 DVSS2 (power) "Digital ground supply", H1 P5.6/ADC12CLK/DMAE0 (io), H2 P2.1/P2MAP1 (io), H4 P2.3/P2MAP3 (io), H6 P1.3/TA0.2/S36 (io), H7 P3.1/TA1.0/S30 (io), H11 P8.2/UCA1TXD/UCA1SIMO/S13 (io), H12 P8.3/UCA1RXD/UCA1SOMI/S12 (io), J1 P2.2/P2MAP2 (io), J2 P2.4/P2MAP4 (io), J4 COM0 (out) "LCD common output COM0 for LCD backplane", J5 P5.5/COM3/S40 (io), J6 P1.2/TA0.1/S37 (io), J7 P1.6/TA0.1/S33 (io), J8 P3.4/TA2CLK/SMCLK/S27 (io), J9 P4.0/TB0.0/S23 (io), J11 P8.0/TB0CLK/S15 (io), J12 P8.1/UCB1STE/UCA1CLK/S14 (io), K1 P2.5/P2MAP5 (io), K2 P2.6/P2MAP6/R03 (io), K11 P4.6/TB0.6/S17 (io), K12 P4.7/TB0OUTH/SVMOUT/S16 (io), L1 DVCC1 (power) "Digital power supply", L2 P2.7/P2MAP7/LCDREF/R13 (io), L3 P5.2/R23 (io), L4 P5.3/COM1/S42 (io), L5 P1.0/TA0CLK/ACLK/S39 (io), L6 P1.5/TA0.4/S34 (io), L7 P3.0/TA1CLK/CBOUT/S31 (io), L8 P3.3/TA1.2/S28 (io), L9 P3.6/TA2.1/S25 (io), L10 P4.2/TB0.2/S21 (io), L11 P4.5/TB0.5/S18 (io), L12 P4.4/TB0.4/S19 (io), M1 DVSS1 (power) "Digital ground supply", M2 VCORE "Regulated core power supply (internal use only, no external current loading)", M3 LCDCAP/R33, M4 P5.4/COM2/S41 (io), M5 P1.1/TA0.0/S38 (io), M6 P1.4/TA0.3/S35 (io), M7 P1.7/TA0.2/S32 (io), M8 P3.2/TA1.1/S29 (io), M9 P3.5/TA2.0/S26 (io), M10 P3.7/TA2.2/S24 (io), M11 P4.1/TB0.1/S22 (io), M12 P4.3/TB0.3/S20 (io)
part B pins: E5 RESERVED "Reserved. It is recommended to connect to ground (DVSS, AVSS).", E6 RESERVED "Reserved. It is recommended to connect to ground (DVSS, AVSS).", E8 RESERVED "Reserved. It is recommended to connect to ground (DVSS, AVSS).", F4 RESERVED "Reserved. It is recommended to connect to ground (DVSS, AVSS).", F5 RESERVED "Reserved. It is recommended to connect to ground (DVSS, AVSS).", F8 RESERVED "Reserved. It is recommended to connect to ground (DVSS, AVSS).", G5 RESERVED "Reserved. It is recommended to connect to ground (DVSS, AVSS).", G8 RESERVED "Reserved. It is recommended to connect to ground (DVSS, AVSS).", H5 RESERVED "Reserved. It is recommended to connect to ground (DVSS, AVSS).", H8 RESERVED "Reserved. It is recommended to connect to ground (DVSS, AVSS).", H9 RESERVED "Reserved. It is recommended to connect to ground (DVSS, AVSS)."

## MSP430F6636IPZ
designator U?
20 MHz Mixed Signal Microcontroller with 128 KB Flash, 16384 B SRAM and 74 GPIOs, -40 to 85 degC, 100-pin QFP (PZ), Green (RoHS & no Sb/Br); Manufacturer: Texas Instruments; PartNumber: MSP430F6636IPZ; ADC: 12-bit SAR; ADC Channels: 16; Brown Out Reset: Yes; DAC: 2; DMA: 3; Flash(KB): 128; Frequency(MHz): 20; GPIO: 74; Multiplier: 32x32; Real-Time Clock: Yes, with battery backup; SRAM(B): 16384; SubFamily: 6 Series with LCD; Timers - 16-bit: 4; USB: 1; DatasheetVersion: SLAS566C; PackageVersion: 4040149/B; PackageReference: PZ100; PackageDescription: 100-Pin Plastic Flat Pack, Body 14 x 14 mm, Pitch 0.5 mm; Supplier 1: Digi-Key; Supplier Part Number 1: 296-29515-2-ND; Supplier 2: Digi-Key; Supplier Part Number 2: 296-29515-1-ND; Supplier 3: Digi-Key; Supplier Part Number 3: 296-29515-6-ND; Supplier 4: Farnell; Supplier Part Number 4: 2057055; Supplier 5: Newark; Supplier Part Number 5: 61T5948; Supplier 6: Mouser; Supplier Part Number 6: 595-MSP430F6635IZQWR; Comparators: Yes; Eco-Plan: Green (RoHS & no Sb/Br); SVS: Yes; Temp Sensor: Yes; USCI_A (UART/LIN/IrDA/SPI): 2; USCI_B (I2C & SPI): 2; Watchdog: Yes; Mounting Technology: Surface Mount; Code_JEDEC: MS-026; ComponentLink1Description: Manufacturer URL; ComponentLink1URL: http://www.ti.com/; ComponentLink2Description: Datasheet; ComponentLink2URL: http://www.ti.com/general/docs/lit/getliterature.tsp?genericPartNumber=MSP430F6636&fileType=pdf; ComponentLink3Description: Package Specification; ComponentLink3URL: http://www.ti.com/lit/ml/mtqf013a/mtqf013a.pdf
footprint TI-PZ100_N (QFP, 100-Leads, Body 14x14mm, Pitch 0.5mm, IPC Medium Density)
pins: 1 P6.4/CB4/A4 (io), 2 P6.5/CB5/A5 (io), 3 P6.6/CB6/A6/DAC0 (io), 4 P6.7/CB7/A7/DAC1 (io), 5 P7.4/CB8/A12 (io), 6 P7.5/CB9/A13 (io), 7 P7.6/CB10/A14/DAC0 (io), 8 P7.7/CB11/A15/DAC1 (io), 9 P5.0/VREF+/VEREF+ (io), 10 P5.1/VREF-/VEREF- (io), 11 AVCC1 (power) "Analog power supply", 12 AVSS1 (power) "Analog ground supply", 13 XIN "Input terminal for crystal oscillator XT1", 14 XOUT "Output terminal of crystal oscillator XT1", 15 AVSS2 (power) "Analog ground supply", 16 P5.6/ADC12CLK/DMAE0 (io), 17 P2.0/P2MAP0 (io), 18 P2.1/P2MAP1 (io), 19 P2.2/P2MAP2 (io), 20 P2.3/P2MAP3 (io), 21 P2.4/P2MAP4 (io), 22 P2.5/P2MAP5 (io), 23 P2.6/P2MAP6/R03 (io), 24 P2.7/P2MAP7/LCDREF/R13 (io), 25 DVCC1 (power) "Digital power supply", 26 DVSS1 (power) "Digital ground supply", 27 VCORE "Regulated core power supply (internal use only, no external current loading)", 28 P5.2/R23 (io), 29 LCDCAP/R33, 30 COM0 (out) "LCD common output COM0 for LCD backplane", 31 P5.3/COM1/S42 (io), 32 P5.4/COM2/S41 (io), 33 P5.5/COM3/S40 (io), 34 P1.0/TA0CLK/ACLK/S39 (io), 35 P1.1/TA0.0/S38 (io), 36 P1.2/TA0.1/S37 (io), 37 P1.3/TA0.2/S36 (io), 38 P1.4/TA0.3/S35 (io), 39 P1.5/TA0.4/S34 (io), 40 P1.6/TA0.1/S33 (io), 41 P1.7/TA0.2/S32 (io), 42 P3.0/TA1CLK/CBOUT/S31 (io), 43 P3.1/TA1.0/S30 (io), 44 P3.2/TA1.1/S29 (io), 45 P3.3/TA1.2/S28 (io), 46 P3.4/TA2CLK/SMCLK/S27 (io), 47 P3.5/TA2.0/S26 (io), 48 P3.6/TA2.1/S25 (io), 49 P3.7/TA2.2/S24 (io), 50 P4.0/TB0.0/S23 (io), 51 P4.1/TB0.1/S22 (io), 52 P4.2/TB0.2/S21 (io), 53 P4.3/TB0.3/S20 (io), 54 P4.4/TB0.4/S19 (io), 55 P4.5/TB0.5/S18 (io), 56 P4.6/TB0.6/S17 (io), 57 P4.7/TB0OUTH/SVMOUT/S16 (io), 58 P8.0/TB0CLK/S15 (io), 59 P8.1/UCB1STE/UCA1CLK/S14 (io), 60 P8.2/UCA1TXD/UCA1SIMO/S13 (io), 61 P8.3/UCA1RXD/UCA1SOMI/S12 (io), 62 P8.4/UCB1CLK/UCA1STE/S11 (io), 63 DVSS2 (power) "Digital ground supply", 64 DVCC2 (power) "Digital power supply", 65 P8.5/UCB1SIMO/UCB1SDA/S10 (io), 66 P8.6/UCB1SOMI/UCB1SCL/S9 (io), 67 P8.7/S8 (io), 68 P9.0/S7 (io), 69 P9.1/S6 (io), 70 P9.2/S5 (io), 71 P9.3/S4 (io), 72 P9.4/S3 (io), 73 P9.5/S2 (io), 74 P9.6/S1 (io), 75 P9.7/S0 (io), 76 VSSU (power) "USB PHY ground supply", 77 PU.0/DP (io), 78 PUR "USB pullup resistor pin (open drain). The voltage level at the PUR pin is used to PUR pin is used to invoke the default USB BSL. Recommended 1-Mohm resistor to ground.", 79 PU.1/DM (io), 80 VBUS (power) "USB LDO input (connect to USB power source)", 81 VUSB (power) "USB LDO output", 82 V18 "USB regulated power (internal use only, no external current loading)", 83 AVSS3 (power) "Analog ground supply", 84 P7.2/XT2IN (io), 85 P7.3/XT2OUT (io), 86 VBAK "Capacitor for backup subsystem. Do not load this pin externally. For capacitor values, see CBAK in Recommended Operating Conditions.", 87 VBAT (power) "Backup or secondary supply voltage. If backup voltage is not supplied, connect to DVCC externally.", 88 P5.7/RTCCLK (io), 89 DVCC3 (power) "Digital power supply", 90 DVSS3 (power) "Digital ground supply", 91 TEST/SBWTCK (in), 92 PJ.0/TDO (io), 93 PJ.1/TDI/TCLK (io), 94 PJ.2/TMS (io), 95 PJ.3/TCK (io), 96 ~{RST}/NMI/SBWTDIO (io), 97 P6.0/CB0/A0 (io), 98 P6.1/CB1/A1 (io), 99 P6.2/CB2/A2 (io), 100 P6.3/CB3/A3 (io)

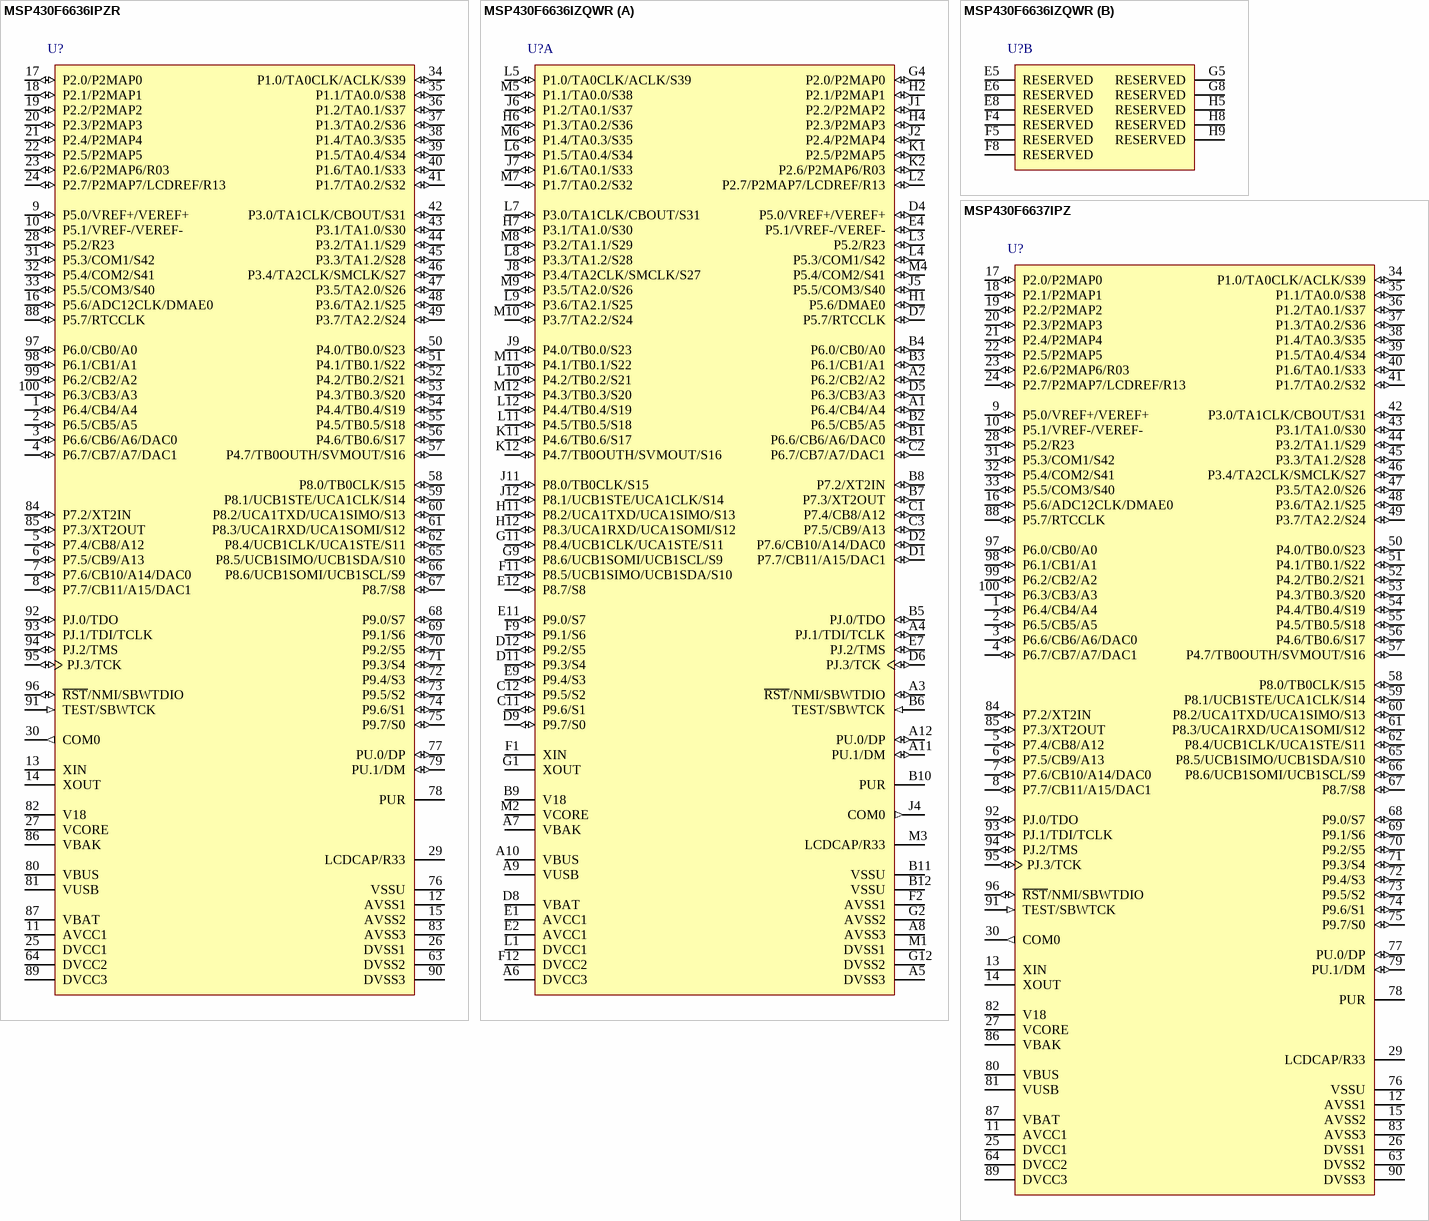
[diagram p152: symbols MSP430F6636IPZR to MSP430F6637IPZ]

## MSP430F6636IPZR
designator U?
20 MHz Mixed Signal Microcontroller with 128 KB Flash, 16384 B SRAM and 74 GPIOs, -40 to 85 degC, 100-pin QFP (PZ), Green (RoHS & no Sb/Br); Manufacturer: Texas Instruments; PartNumber: MSP430F6636IPZR; ADC: 12-bit SAR; ADC Channels: 16; Brown Out Reset: Yes; DAC: 2; DMA: 3; Flash(KB): 128; Frequency(MHz): 20; GPIO: 74; Multiplier: 32x32; Real-Time Clock: Yes, with battery backup; SRAM(B): 16384; SubFamily: 6 Series with LCD; Timers - 16-bit: 4; USB: 1; DatasheetVersion: SLAS566C; PackageVersion: 4040149/B; PackageReference: PZ100; PackageDescription: 100-Pin Plastic Flat Pack, Body 14 x 14 mm, Pitch 0.5 mm; Supplier 1: Digi-Key; Supplier Part Number 1: 296-29956-5-ND; Supplier 2: Farnell; Supplier Part Number 2: 2064093; Supplier 3: Newark; Supplier Part Number 3: 64T3697; Supplier 4: Mouser; Supplier Part Number 4: 595-MSP430F6636IPZ; Comparators: Yes; Eco-Plan: Green (RoHS & no Sb/Br); SVS: Yes; Temp Sensor: Yes; USCI_A (UART/LIN/IrDA/SPI): 2; USCI_B (I2C & SPI): 2; Watchdog: Yes; Mounting Technology: Surface Mount; Code_JEDEC: MS-026; ComponentLink1Description: Manufacturer URL; ComponentLink1URL: http://www.ti.com/; ComponentLink2Description: Datasheet; ComponentLink2URL: http://www.ti.com/general/docs/lit/getliterature.tsp?genericPartNumber=MSP430F6636&fileType=pdf; ComponentLink3Description: Package Specification; ComponentLink3URL: http://www.ti.com/lit/ml/mtqf013a/mtqf013a.pdf
footprint TI-PZ100_N (QFP, 100-Leads, Body 14x14mm, Pitch 0.5mm, IPC Medium Density)
pins: 1 P6.4/CB4/A4 (io), 2 P6.5/CB5/A5 (io), 3 P6.6/CB6/A6/DAC0 (io), 4 P6.7/CB7/A7/DAC1 (io), 5 P7.4/CB8/A12 (io), 6 P7.5/CB9/A13 (io), 7 P7.6/CB10/A14/DAC0 (io), 8 P7.7/CB11/A15/DAC1 (io), 9 P5.0/VREF+/VEREF+ (io), 10 P5.1/VREF-/VEREF- (io), 11 AVCC1 (power) "Analog power supply", 12 AVSS1 (power) "Analog ground supply", 13 XIN "Input terminal for crystal oscillator XT1", 14 XOUT "Output terminal of crystal oscillator XT1", 15 AVSS2 (power) "Analog ground supply", 16 P5.6/ADC12CLK/DMAE0 (io), 17 P2.0/P2MAP0 (io), 18 P2.1/P2MAP1 (io), 19 P2.2/P2MAP2 (io), 20 P2.3/P2MAP3 (io), 21 P2.4/P2MAP4 (io), 22 P2.5/P2MAP5 (io), 23 P2.6/P2MAP6/R03 (io), 24 P2.7/P2MAP7/LCDREF/R13 (io), 25 DVCC1 (power) "Digital power supply", 26 DVSS1 (power) "Digital ground supply", 27 VCORE "Regulated core power supply (internal use only, no external current loading)", 28 P5.2/R23 (io), 29 LCDCAP/R33, 30 COM0 (out) "LCD common output COM0 for LCD backplane", 31 P5.3/COM1/S42 (io), 32 P5.4/COM2/S41 (io), 33 P5.5/COM3/S40 (io), 34 P1.0/TA0CLK/ACLK/S39 (io), 35 P1.1/TA0.0/S38 (io), 36 P1.2/TA0.1/S37 (io), 37 P1.3/TA0.2/S36 (io), 38 P1.4/TA0.3/S35 (io), 39 P1.5/TA0.4/S34 (io), 40 P1.6/TA0.1/S33 (io), 41 P1.7/TA0.2/S32 (io), 42 P3.0/TA1CLK/CBOUT/S31 (io), 43 P3.1/TA1.0/S30 (io), 44 P3.2/TA1.1/S29 (io), 45 P3.3/TA1.2/S28 (io), 46 P3.4/TA2CLK/SMCLK/S27 (io), 47 P3.5/TA2.0/S26 (io), 48 P3.6/TA2.1/S25 (io), 49 P3.7/TA2.2/S24 (io), 50 P4.0/TB0.0/S23 (io), 51 P4.1/TB0.1/S22 (io), 52 P4.2/TB0.2/S21 (io), 53 P4.3/TB0.3/S20 (io), 54 P4.4/TB0.4/S19 (io), 55 P4.5/TB0.5/S18 (io), 56 P4.6/TB0.6/S17 (io), 57 P4.7/TB0OUTH/SVMOUT/S16 (io), 58 P8.0/TB0CLK/S15 (io), 59 P8.1/UCB1STE/UCA1CLK/S14 (io), 60 P8.2/UCA1TXD/UCA1SIMO/S13 (io), 61 P8.3/UCA1RXD/UCA1SOMI/S12 (io), 62 P8.4/UCB1CLK/UCA1STE/S11 (io), 63 DVSS2 (power) "Digital ground supply", 64 DVCC2 (power) "Digital power supply", 65 P8.5/UCB1SIMO/UCB1SDA/S10 (io), 66 P8.6/UCB1SOMI/UCB1SCL/S9 (io), 67 P8.7/S8 (io), 68 P9.0/S7 (io), 69 P9.1/S6 (io), 70 P9.2/S5 (io), 71 P9.3/S4 (io), 72 P9.4/S3 (io), 73 P9.5/S2 (io), 74 P9.6/S1 (io), 75 P9.7/S0 (io), 76 VSSU (power) "USB PHY ground supply", 77 PU.0/DP (io), 78 PUR "USB pullup resistor pin (open drain). The voltage level at the PUR pin is used to PUR pin is used to invoke the default USB BSL. Recommended 1-Mohm resistor to ground.", 79 PU.1/DM (io), 80 VBUS (power) "USB LDO input (connect to USB power source)", 81 VUSB (power) "USB LDO output", 82 V18 "USB regulated power (internal use only, no external current loading)", 83 AVSS3 (power) "Analog ground supply", 84 P7.2/XT2IN (io), 85 P7.3/XT2OUT (io), 86 VBAK "Capacitor for backup subsystem. Do not load this pin externally. For capacitor values, see CBAK in Recommended Operating Conditions.", 87 VBAT (power) "Backup or secondary supply voltage. If backup voltage is not supplied, connect to DVCC externally.", 88 P5.7/RTCCLK (io), 89 DVCC3 (power) "Digital power supply", 90 DVSS3 (power) "Digital ground supply", 91 TEST/SBWTCK (in), 92 PJ.0/TDO (io), 93 PJ.1/TDI/TCLK (io), 94 PJ.2/TMS (io), 95 PJ.3/TCK (io), 96 ~{RST}/NMI/SBWTDIO (io), 97 P6.0/CB0/A0 (io), 98 P6.1/CB1/A1 (io), 99 P6.2/CB2/A2 (io), 100 P6.3/CB3/A3 (io)

## MSP430F6636IZQWR
designator U?
20 MHz Mixed Signal Microcontroller with 128 KB Flash, 16384 B SRAM and 74 GPIOs, -40 to 85 degC, 113-pin BGA (ZQW), Green (RoHS & no Sb/Br); Manufacturer: Texas Instruments; PartNumber: MSP430F6636IZQWR; ADC: 12-bit SAR; ADC Channels: 16; Brown Out Reset: Yes; DAC: 2; DMA: 3; Flash(KB): 128; Frequency(MHz): 20; GPIO: 74; Multiplier: 32x32; Real-Time Clock: Yes, with battery backup; SRAM(B): 16384; SubFamily: 6 Series with LCD; Timers - 16-bit: 4; USB: 1; DatasheetVersion: SLAS566C; PackageVersion: 4204599-3/D; PackageReference: ZQW113; PackageDescription: 113-Pin Plastic Ball Grid Array Package, Body 7 x 7 mm, Pitch 0.5 mm; Supplier 1: Digi-Key; Supplier Part Number 1: 296-29464-2-ND; Supplier 2: Digi-Key; Supplier Part Number 2: 296-29464-1-ND; Supplier 3: Digi-Key; Supplier Part Number 3: 296-29464-6-ND; Supplier 4: Newark; Supplier Part Number 4: 64T3698; Supplier 5: Mouser; Supplier Part Number 5: 595-MSP430F6636IPZR; Comparators: Yes; Eco-Plan: Green (RoHS & no Sb/Br); SVS: Yes; Temp Sensor: Yes; USCI_A (UART/LIN/IrDA/SPI): 2; USCI_B (I2C & SPI): 2; Watchdog: Yes; Mounting Technology: Surface Mount; Code_JEDEC: MO-225; ComponentLink1Description: Manufacturer URL; ComponentLink1URL: http://www.ti.com/; ComponentLink2Description: Datasheet; ComponentLink2URL: http://www.ti.com/general/docs/lit/getliterature.tsp?genericPartNumber=MSP430F6636&fileType=pdf; ComponentLink3Description: Package Specification; ComponentLink3URL: http://www.ti.com/lit/ml/mpbg674/mpbg674.pdf
footprint TI-ZQW113 (BGA, 113-Balls, Body 7x7mm, Pitch 0.5mm)
part A pins: A1 P6.4/CB4/A4 (io), A2 P6.2/CB2/A2 (io), A3 ~{RST}/NMI/SBWTDIO (io), A4 PJ.1/TDI/TCLK (io), A5 DVSS3 (power) "Digital ground supply", A6 DVCC3 (power) "Digital power supply", A7 VBAK "Capacitor for backup subsystem. Do not load this pin externally. For capacitor values, see CBAK in Recommended Operating Conditions.", A8 AVSS3 (power) "Analog ground supply", A9 VUSB (power) "USB LDO output", A10 VBUS (power) "USB LDO input (connect to USB power source)", A11 PU.1/DM (io), A12 PU.0/DP (io), B1 P6.6/CB6/A6/DAC0 (io), B2 P6.5/CB5/A5 (io), B3 P6.1/CB1/A1 (io), B4 P6.0/CB0/A0 (io), B5 PJ.0/TDO (io), B6 TEST/SBWTCK (in), B7 P7.3/XT2OUT (io), B8 P7.2/XT2IN (io), B9 V18 "USB regulated power (internal use only, no external current loading)", B10 PUR "USB pullup resistor pin (open drain). The voltage level at the PUR pin is used to the default USB BSL. Recommended 1-Mohm resistor to ground.", B11 VSSU (power) "USB PHY ground supply", B12 VSSU (power) "USB PHY ground supply", C1 P7.4/CB8/A12 (io), C2 P6.7/CB7/A7/DAC1 (io), C3 P7.5/CB9/A13 (io), C11 P9.6/S1 (io), C12 P9.5/S2 (io), D1 P7.7/CB11/A15/DAC1 (io), D2 P7.6/CB10/A14/DAC0 (io), D4 P5.0/VREF+/VEREF+ (io), D5 P6.3/CB3/A3 (io), D6 PJ.3/TCK (io), D7 P5.7/RTCCLK (io), D8 VBAT (power) "Backup or secondary supply voltage. If backup voltage is not supplied, connect to DVCC externally.", D9 P9.7/S0 (io), D11 P9.3/S4 (io), D12 P9.2/S5 (io), E1 AVCC1 (power) "Analog power supply", E2 AVCC1 (power) "Analog power supply", E4 P5.1/VREF-/VEREF- (io), E7 PJ.2/TMS (io), E9 P9.4/S3 (io), E11 P9.0/S7 (io), E12 P8.7/S8 (io), F1 XIN "Input terminal for crystal oscillator XT1", F2 AVSS1 (power) "Analog ground supply", F9 P9.1/S6 (io), F11 P8.5/UCB1SIMO/UCB1SDA/S10 (io), F12 DVCC2 (power) "Digital power supply", G1 XOUT "Output terminal of crystal oscillator XT1", G2 AVSS2 (power) "Analog ground supply", G4 P2.0/P2MAP0 (io), G9 P8.6/UCB1SOMI/UCB1SCL/S9 (io), G11 P8.4/UCB1CLK/UCA1STE/S11 (io), G12 DVSS2 (power) "Digital ground supply", H1 P5.6/DMAE0 (io), H2 P2.1/P2MAP1 (io), H4 P2.3/P2MAP3 (io), H6 P1.3/TA0.2/S36 (io), H7 P3.1/TA1.0/S30 (io), H11 P8.2/UCA1TXD/UCA1SIMO/S13 (io), H12 P8.3/UCA1RXD/UCA1SOMI/S12 (io), J1 P2.2/P2MAP2 (io), J2 P2.4/P2MAP4 (io), J4 COM0 (out) "LCD common output COM0 for LCD backplane", J5 P5.5/COM3/S40 (io), J6 P1.2/TA0.1/S37 (io), J7 P1.6/TA0.1/S33 (io), J8 P3.4/TA2CLK/SMCLK/S27 (io), J9 P4.0/TB0.0/S23 (io), J11 P8.0/TB0CLK/S15 (io), J12 P8.1/UCB1STE/UCA1CLK/S14 (io), K1 P2.5/P2MAP5 (io), K2 P2.6/P2MAP6/R03 (io), K11 P4.6/TB0.6/S17 (io), K12 P4.7/TB0OUTH/SVMOUT/S16 (io), L1 DVCC1 (power) "Digital power supply", L2 P2.7/P2MAP7/LCDREF/R13 (io), L3 P5.2/R23 (io), L4 P5.3/COM1/S42 (io), L5 P1.0/TA0CLK/ACLK/S39 (io), L6 P1.5/TA0.4/S34 (io), L7 P3.0/TA1CLK/CBOUT/S31 (io), L8 P3.3/TA1.2/S28 (io), L9 P3.6/TA2.1/S25 (io), L10 P4.2/TB0.2/S21 (io), L11 P4.5/TB0.5/S18 (io), L12 P4.4/TB0.4/S19 (io), M1 DVSS1 (power) "Digital ground supply", M2 VCORE "Regulated core power supply (internal use only, no external current loading)", M3 LCDCAP/R33, M4 P5.4/COM2/S41 (io), M5 P1.1/TA0.0/S38 (io), M6 P1.4/TA0.3/S35 (io), M7 P1.7/TA0.2/S32 (io), M8 P3.2/TA1.1/S29 (io), M9 P3.5/TA2.0/S26 (io), M10 P3.7/TA2.2/S24 (io), M11 P4.1/TB0.1/S22 (io), M12 P4.3/TB0.3/S20 (io)
part B pins: E5 RESERVED "Reserved. It is recommended to connect to ground (DVSS, AVSS).", E6 RESERVED "Reserved. It is recommended to connect to ground (DVSS, AVSS).", E8 RESERVED "Reserved. It is recommended to connect to ground (DVSS, AVSS).", F4 RESERVED "Reserved. It is recommended to connect to ground (DVSS, AVSS).", F5 RESERVED "Reserved. It is recommended to connect to ground (DVSS, AVSS).", F8 RESERVED "Reserved. It is recommended to connect to ground (DVSS, AVSS).", G5 RESERVED "Reserved. It is recommended to connect to ground (DVSS, AVSS).", G8 RESERVED "Reserved. It is recommended to connect to ground (DVSS, AVSS).", H5 RESERVED "Reserved. It is recommended to connect to ground (DVSS, AVSS).", H8 RESERVED "Reserved. It is recommended to connect to ground (DVSS, AVSS).", H9 RESERVED "Reserved. It is recommended to connect to ground (DVSS, AVSS)."

## MSP430F6637IPZ
designator U?
20 MHz Mixed Signal Microcontroller with 192 KB Flash, 16384 B SRAM and 74 GPIOs, -40 to 85 degC, 100-pin QFP (PZ), Green (RoHS & no Sb/Br); Manufacturer: Texas Instruments; PartNumber: MSP430F6637IPZ; ADC: 12-bit SAR; ADC Channels: 16; Brown Out Reset: Yes; DAC: 2; DMA: 3; Flash(KB): 192; Frequency(MHz): 20; GPIO: 74; Multiplier: 32x32; Real-Time Clock: Yes, with battery backup; SRAM(B): 16384; SubFamily: 6 Series with LCD; Timers - 16-bit: 4; USB: 1; DatasheetVersion: SLAS566C; PackageVersion: 4040149/B; PackageReference: PZ100; PackageDescription: 100-Pin Plastic Flat Pack, Body 14 x 14 mm, Pitch 0.5 mm; Supplier 1: Digi-Key; Supplier Part Number 1: 296-29469-2-ND; Supplier 2: Digi-Key; Supplier Part Number 2: 296-29469-1-ND; Supplier 3: Digi-Key; Supplier Part Number 3: 296-29469-6-ND; Supplier 4: Mouser; Supplier Part Number 4: 595-MSP430F6636IZQWR; Comparators: Yes; Eco-Plan: Green (RoHS & no Sb/Br); SVS: Yes; Temp Sensor: Yes; USCI_A (UART/LIN/IrDA/SPI): 2; USCI_B (I2C & SPI): 2; Watchdog: Yes; Mounting Technology: Surface Mount; Code_JEDEC: MS-026; ComponentLink1Description: Manufacturer URL; ComponentLink1URL: http://www.ti.com/; ComponentLink2Description: Datasheet; ComponentLink2URL: http://www.ti.com/general/docs/lit/getliterature.tsp?genericPartNumber=MSP430F6637&fileType=pdf; ComponentLink3Description: Package Specification; ComponentLink3URL: http://www.ti.com/lit/ml/mtqf013a/mtqf013a.pdf
footprint TI-PZ100_N (QFP, 100-Leads, Body 14x14mm, Pitch 0.5mm, IPC Medium Density)
pins: 1 P6.4/CB4/A4 (io), 2 P6.5/CB5/A5 (io), 3 P6.6/CB6/A6/DAC0 (io), 4 P6.7/CB7/A7/DAC1 (io), 5 P7.4/CB8/A12 (io), 6 P7.5/CB9/A13 (io), 7 P7.6/CB10/A14/DAC0 (io), 8 P7.7/CB11/A15/DAC1 (io), 9 P5.0/VREF+/VEREF+ (io), 10 P5.1/VREF-/VEREF- (io), 11 AVCC1 (power) "Analog power supply", 12 AVSS1 (power) "Analog ground supply", 13 XIN "Input terminal for crystal oscillator XT1", 14 XOUT "Output terminal of crystal oscillator XT1", 15 AVSS2 (power) "Analog ground supply", 16 P5.6/ADC12CLK/DMAE0 (io), 17 P2.0/P2MAP0 (io), 18 P2.1/P2MAP1 (io), 19 P2.2/P2MAP2 (io), 20 P2.3/P2MAP3 (io), 21 P2.4/P2MAP4 (io), 22 P2.5/P2MAP5 (io), 23 P2.6/P2MAP6/R03 (io), 24 P2.7/P2MAP7/LCDREF/R13 (io), 25 DVCC1 (power) "Digital power supply", 26 DVSS1 (power) "Digital ground supply", 27 VCORE "Regulated core power supply (internal use only, no external current loading)", 28 P5.2/R23 (io), 29 LCDCAP/R33, 30 COM0 (out) "LCD common output COM0 for LCD backplane", 31 P5.3/COM1/S42 (io), 32 P5.4/COM2/S41 (io), 33 P5.5/COM3/S40 (io), 34 P1.0/TA0CLK/ACLK/S39 (io), 35 P1.1/TA0.0/S38 (io), 36 P1.2/TA0.1/S37 (io), 37 P1.3/TA0.2/S36 (io), 38 P1.4/TA0.3/S35 (io), 39 P1.5/TA0.4/S34 (io), 40 P1.6/TA0.1/S33 (io), 41 P1.7/TA0.2/S32 (io), 42 P3.0/TA1CLK/CBOUT/S31 (io), 43 P3.1/TA1.0/S30 (io), 44 P3.2/TA1.1/S29 (io), 45 P3.3/TA1.2/S28 (io), 46 P3.4/TA2CLK/SMCLK/S27 (io), 47 P3.5/TA2.0/S26 (io), 48 P3.6/TA2.1/S25 (io), 49 P3.7/TA2.2/S24 (io), 50 P4.0/TB0.0/S23 (io), 51 P4.1/TB0.1/S22 (io), 52 P4.2/TB0.2/S21 (io), 53 P4.3/TB0.3/S20 (io), 54 P4.4/TB0.4/S19 (io), 55 P4.5/TB0.5/S18 (io), 56 P4.6/TB0.6/S17 (io), 57 P4.7/TB0OUTH/SVMOUT/S16 (io), 58 P8.0/TB0CLK/S15 (io), 59 P8.1/UCB1STE/UCA1CLK/S14 (io), 60 P8.2/UCA1TXD/UCA1SIMO/S13 (io), 61 P8.3/UCA1RXD/UCA1SOMI/S12 (io), 62 P8.4/UCB1CLK/UCA1STE/S11 (io), 63 DVSS2 (power) "Digital ground supply", 64 DVCC2 (power) "Digital power supply", 65 P8.5/UCB1SIMO/UCB1SDA/S10 (io), 66 P8.6/UCB1SOMI/UCB1SCL/S9 (io), 67 P8.7/S8 (io), 68 P9.0/S7 (io), 69 P9.1/S6 (io), 70 P9.2/S5 (io), 71 P9.3/S4 (io), 72 P9.4/S3 (io), 73 P9.5/S2 (io), 74 P9.6/S1 (io), 75 P9.7/S0 (io), 76 VSSU (power) "USB PHY ground supply", 77 PU.0/DP (io), 78 PUR "USB pullup resistor pin (open drain). The voltage level at the PUR pin is used to PUR pin is used to invoke the default USB BSL. Recommended 1-Mohm resistor to ground.", 79 PU.1/DM (io), 80 VBUS (power) "USB LDO input (connect to USB power source)", 81 VUSB (power) "USB LDO output", 82 V18 "USB regulated power (internal use only, no external current loading)", 83 AVSS3 (power) "Analog ground supply", 84 P7.2/XT2IN (io), 85 P7.3/XT2OUT (io), 86 VBAK "Capacitor for backup subsystem. Do not load this pin externally. For capacitor values, see CBAK in Recommended Operating Conditions.", 87 VBAT (power) "Backup or secondary supply voltage. If backup voltage is not supplied, connect to DVCC externally.", 88 P5.7/RTCCLK (io), 89 DVCC3 (power) "Digital power supply", 90 DVSS3 (power) "Digital ground supply", 91 TEST/SBWTCK (in), 92 PJ.0/TDO (io), 93 PJ.1/TDI/TCLK (io), 94 PJ.2/TMS (io), 95 PJ.3/TCK (io), 96 ~{RST}/NMI/SBWTDIO (io), 97 P6.0/CB0/A0 (io), 98 P6.1/CB1/A1 (io), 99 P6.2/CB2/A2 (io), 100 P6.3/CB3/A3 (io)

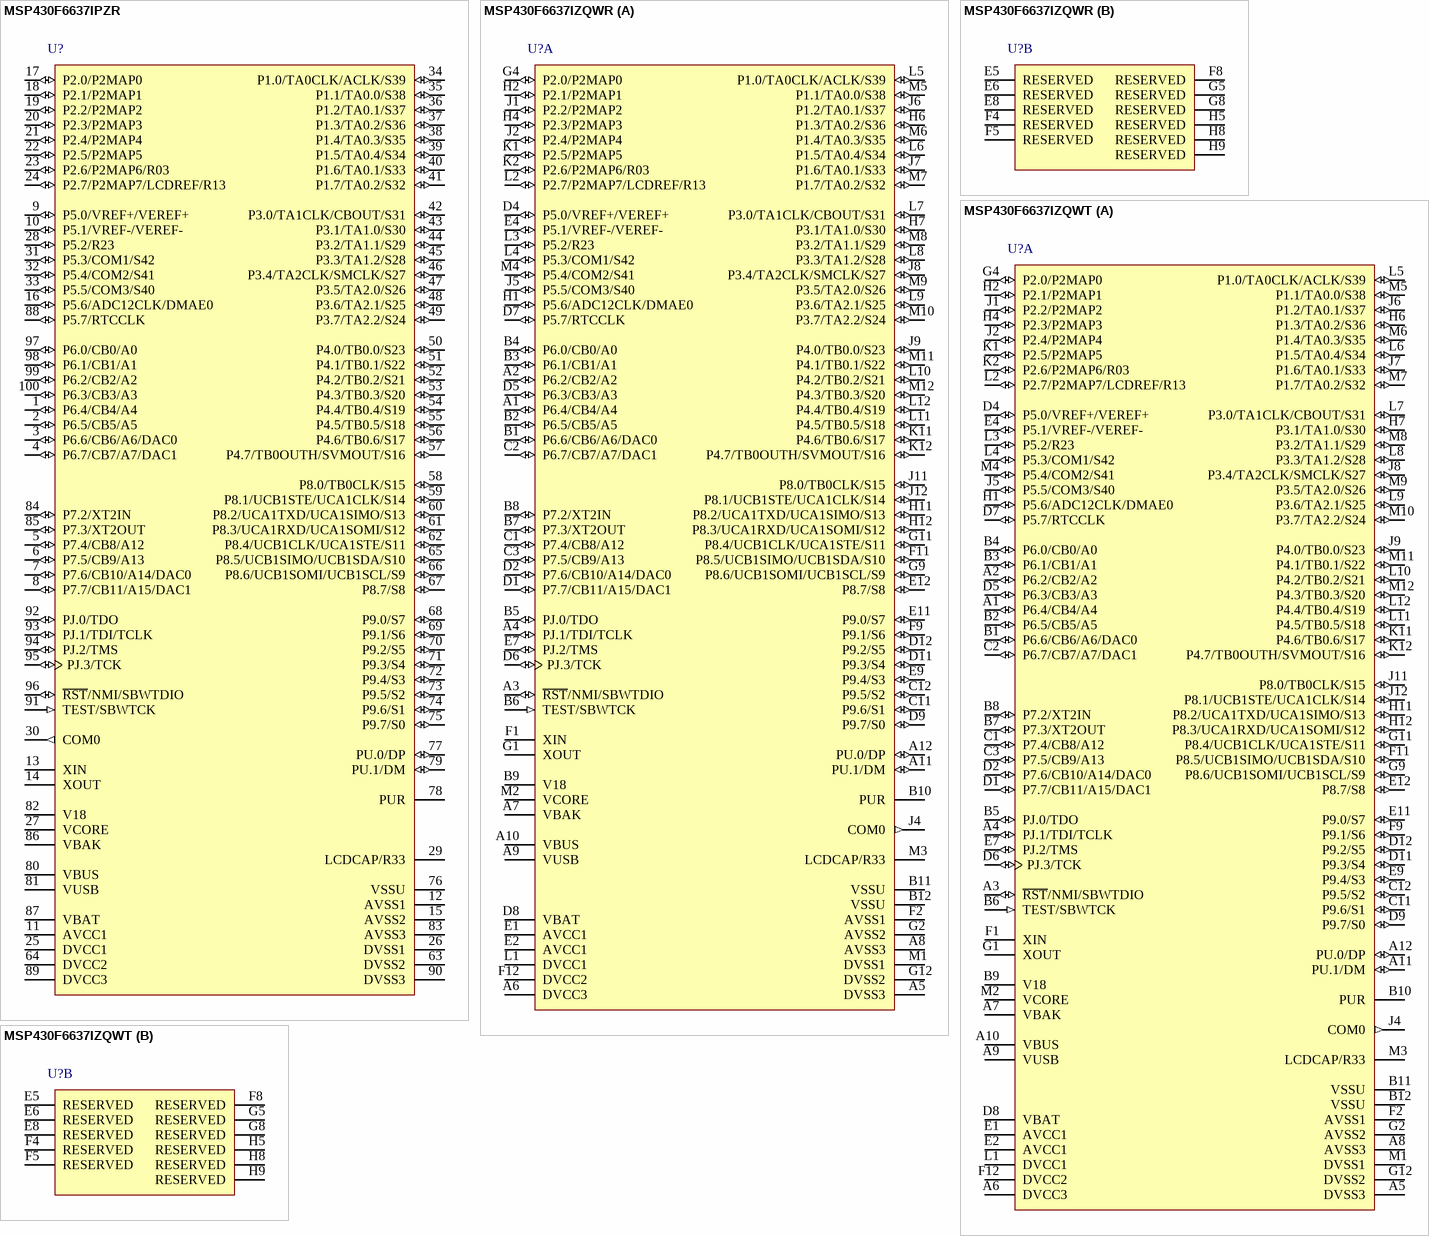
[diagram p153: symbols MSP430F6637IPZR to MSP430F6637IZQWT]